# Altium schematic symbol library vishay_precision_resistor.SchLib: 1 symbol
Pins are listed as number, name and electrical type; pins without a type are passive.

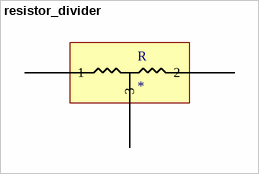
[diagram p0: symbol resistor_divider]

## resistor_divider
designator R
Precision Resistor Divider
footprint SOT23-3L (SOT23, 3-Leads, Body 2.9x1.3mm, Pitch 0.95mm, Lead Span 2.5mm, IPC High Density); pin to pad 0>1 1>2 2>3
pins: 0 1, 1 2, 2 3